# Altium schematic symbol library SCH - DRIVER - LED - TI TPS61088RHL.SchLib: 1 symbol
Pins are listed as number, name and electrical type; pins without a type are passive.

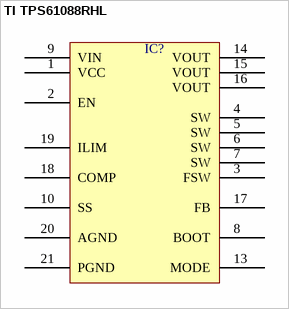
[diagram p0: symbol TI TPS61088RHL]

## TI TPS61088RHL
designator IC?  (value not drawn)
pins: 1 VCC, 2 EN, 3 FSW, 4 SW, 5 SW, 6 SW, 7 SW, 8 BOOT, 9 VIN, 10 SS, 13 MODE, 14 VOUT, 15 VOUT, 16 VOUT, 17 FB, 18 COMP, 19 ILIM, 20 AGND, 21 PGND